# Altium schematic symbol library SchLib.SchLib: 39 symbols
Pins are listed as number, name and electrical type; pins without a type are passive.

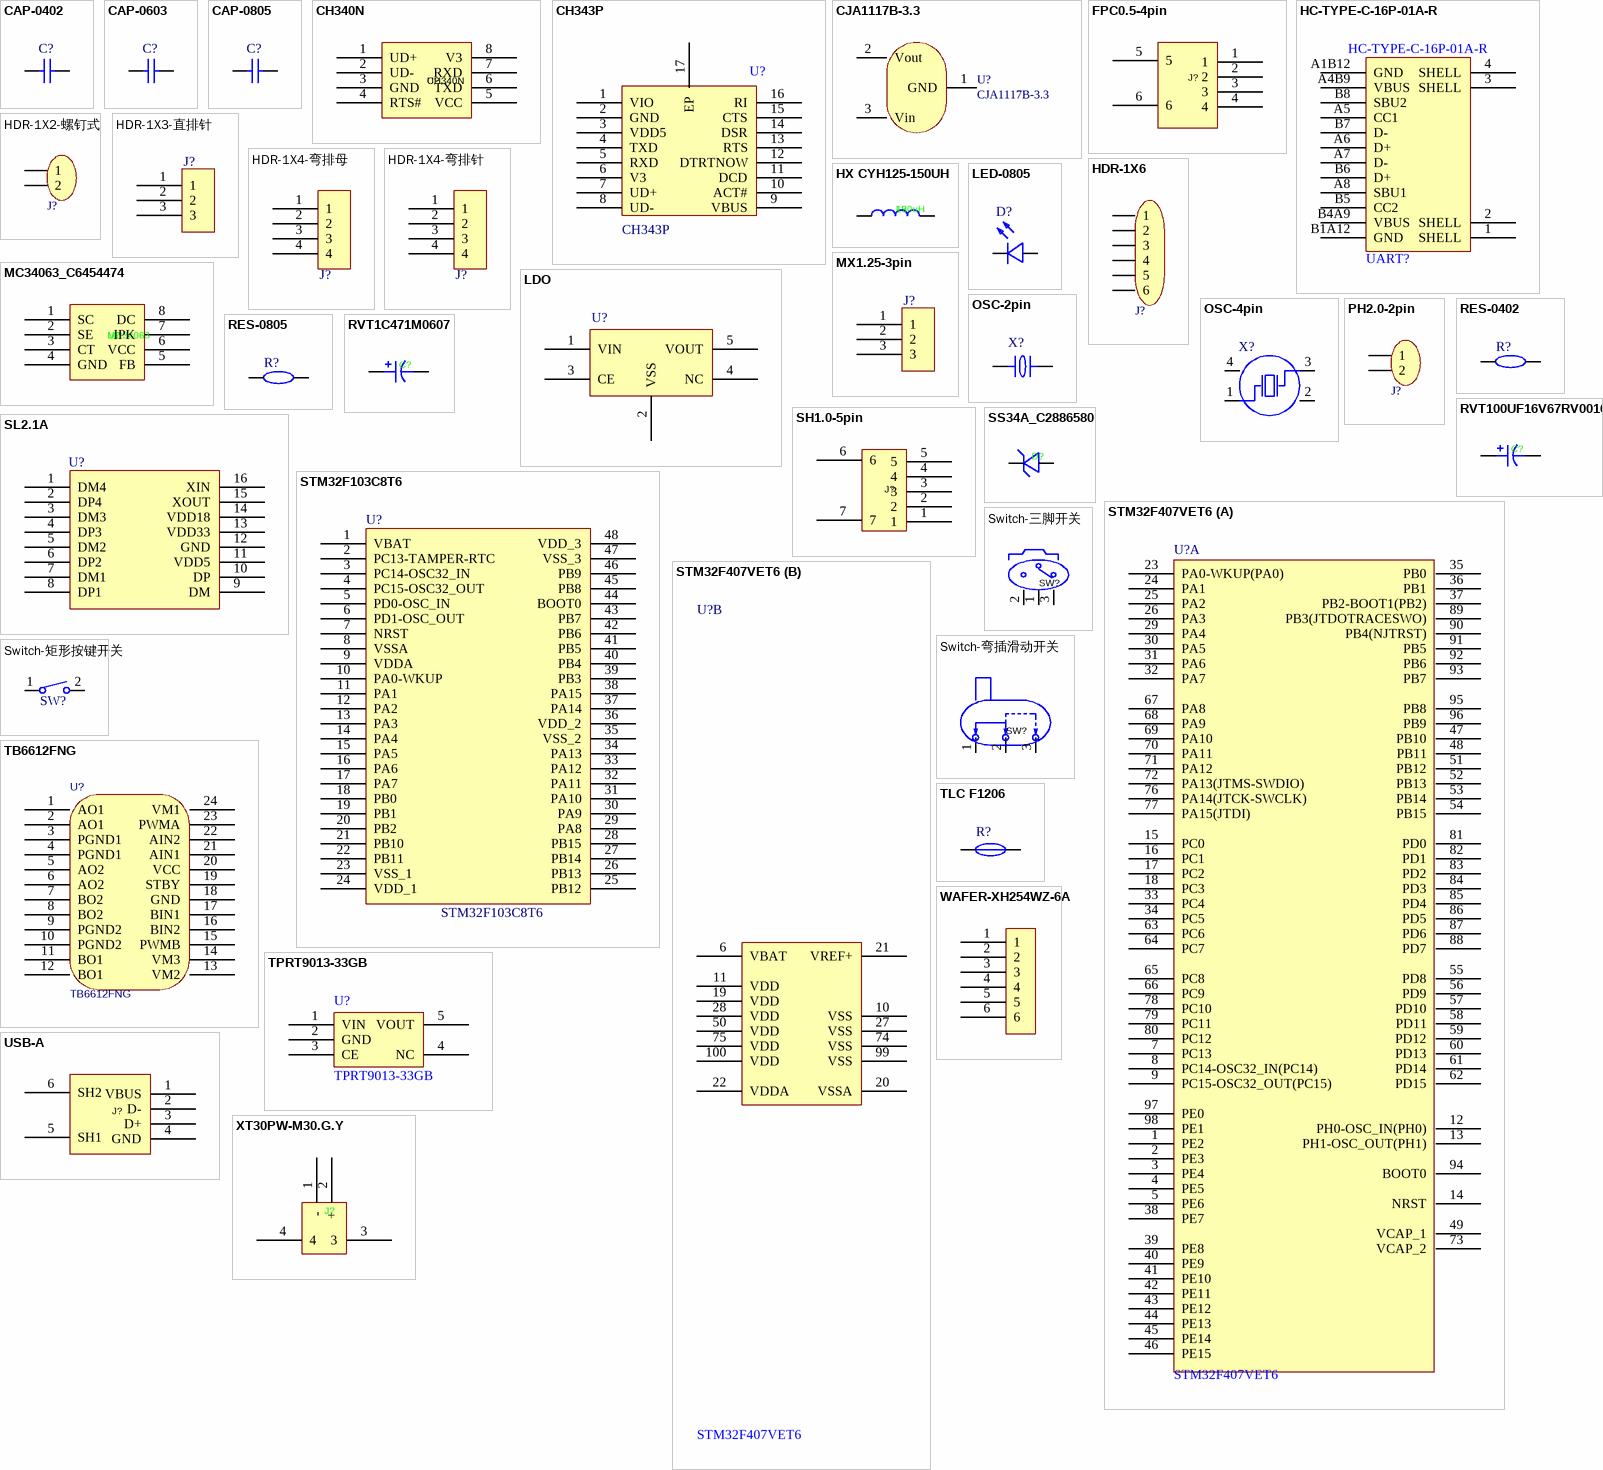
[diagram p0: symbols CAP-0402 to XT30PW-M30.G.Y]

## CAP-0402
designator C?
0402贴片电容; Manufacturer: SAMSUNG(三星); Symbol: CL21B104KBCNNNC; Add into BOM: yes; Tolerance: ±10%; Voltage Rated: 50V; Temperature Coefficient: X7R; Device: CL21B104KBCNNNC; LCSC Part Name: 100nF ±10% 50V; Supplier Part: C1711; Manufacturer Part: CL21B104KBCNNNC; Supplier Footprint: 0805; JLCPCB Part Class: Extended Part; Datasheet: https://atta.szlcsc.com/upload/public/pdf/source/20160103/1457707693305.pdf; Supplier: LCSC; Convert to PCB: yes
3D model C0805_L2.0-W1.3-H1.3
footprint C0402
pins: 1, 2

## CAP-0603
designator C?
0603贴片电容; Manufacturer: SAMSUNG(三星); Symbol: CL21B104KBCNNNC; Add into BOM: yes; Tolerance: ±10%; Voltage Rated: 50V; Temperature Coefficient: X7R; Device: CL21B104KBCNNNC; LCSC Part Name: 100nF ±10% 50V; Supplier Part: C1711; Manufacturer Part: CL21B104KBCNNNC; Supplier Footprint: 0805; JLCPCB Part Class: Extended Part; Datasheet: https://atta.szlcsc.com/upload/public/pdf/source/20160103/1457707693305.pdf; Supplier: LCSC; Convert to PCB: yes
3D model C0805_L2.0-W1.3-H1.3
footprint C0603
pins: 1, 2

## CAP-0805
designator C?
0805贴片电容; Manufacturer: SAMSUNG(三星); Symbol: CL21B104KBCNNNC; Add into BOM: yes; Tolerance: ±10%; Voltage Rated: 50V; Temperature Coefficient: X7R; Device: CL21B104KBCNNNC; LCSC Part Name: 100nF ±10% 50V; Supplier Part: C1711; Manufacturer Part: CL21B104KBCNNNC; Supplier Footprint: 0805; JLCPCB Part Class: Extended Part; Datasheet: https://atta.szlcsc.com/upload/public/pdf/source/20160103/1457707693305.pdf; Supplier: LCSC; Convert to PCB: yes
footprint C0805
3D model C0805_L2.0-W1.3-H1.3
pins: 1, 2

## CH340N
designator U?
USB转串口; Manufacturer: WCH(南京沁恒); Symbol: CH340N_C2977777; Add into BOM: yes; Protocol: USB 2.0; Number of Channels: 1; Supply Voltage: 3.3V；5V; Data Rate: 2Mbps; Device: CH340N; LCSC Part Name: USB转串口芯片CH340; Supplier Part: C2977777; Manufacturer Part: CH340N; Supplier Footprint: SOP-8; JLCPCB Part Class: Extended Part; Datasheet: https://atta.szlcsc.com/upload/public/pdf/source/20240313/115CDE92081B1D6CB446704AD5D0F5F2.pdf; Supplier: LCSC; Convert to PCB: yes; Applications Function: USB转串口; Operating Temperature: -20℃~+70℃
footprint SOP-8_L4.9-W3.9-P1.27-LS6.0-BL
3D model SOP-8_L4.9-W3.9-P1.27-LS6.0-BL-1
pins: 1 UD+, 2 UD-, 3 GND, 4 RTS#, 5 VCC, 6 TXD, 7 RXD, 8 V3

## CH343P
designator U?
USB转串口; Manufacturer: WCH(南京沁恒); Add into BOM: yes; Symbol: CH343P; Device: CH343P; Supplier Part: C2846043; Manufacturer Part: CH343P; Supplier Footprint: QFN-16; JLCPCB Part Class: 扩展库; Datasheet: https://atta.szlcsc.com/upload/public/pdf/source/20211010/C2846043_7FA705E1F14A2906F6A2AFA45FA28209.pdf; Supplier: LCSC; Convert to PCB: yes; Type: -; Protocol: -; Number of Drivers/Receivers: -; Data Rate: -; Supply Voltage: -
footprint TQFN-16_L3.0-W3.0-P0.50-BL-EP1.7
3D model TQFN-16_L3.0-W3.0-P0.50-BL-EP1.7
pins: 1 VIO, 2 GND, 3 VDD5, 4 TXD, 5 RXD, 6 V3, 7 UD+, 8 UD-, 9 VBUS, 10 ACT#, 11 DCD, 12 DTRTNOW, 13 RTS, 14 DSR, 15 CTS, 16 RI, 17 EP

## CJA1117B-3.3
designator U?
3.3V线性稳压器
footprint SOT-89
pins: 1 GND, 2 Vout, 3 Vin

## FPC0.5-4pin
designator J?, comment AFC01-S04FCC-00  (value not drawn)
4pin FPC接口，间距0.5mm; Manufacturer: JS(钜硕电子); Add into BOM: yes; Locking Feature: 翻盖式; Number of Contacts: 4P; Pitch: 0.5mm; FFC, FCB Thickness: 0.3mm; Symbol: AFC01-S04FCC-00; Device: AFC01-S04FCC-00; LCSC Part Name: 间距:0.5mm P数:4P 翻盖式 下接; Supplier Part: C262260; Manufacturer Part: AFC01-S04FCC-00; Supplier Footprint: SMD,P=0.5mm,卧贴; JLCPCB Part Class: Extended Part; Datasheet: https://atta.szlcsc.com/upload/public/pdf/source/20190816/C413942_2A72D1AC756EAE17EEDF756A339D4500.pdf; Supplier: LCSC; Convert to PCB: yes; Contact Type: 下接; Mounting Type: 卧贴; Height Above Board: 2mm
footprint FFC-SMD_4P-P0.50_AFC01-S04FCC-00
3D model FFC-SMD_4P-P0.50_AFC01-S04FCC-00
pins: 1, 2, 3, 4, 5, 6

## HC-TYPE-C-16P-01A-R
designator UART?
Type-C接口; Manufacturer: HCTL(华灿天禄); Add into BOM: yes; Connector Type: Type-C; Gender: 母座; Number of Contacts: 16; Number of Ports: 1; Symbol: HC-TYPE-C-16P-01A-R; Device: HC-TYPE-C-16P-01A-R; LCSC Part Name: Type-C 母座 卧贴; Supplier Part: C2997433; Manufacturer Part: HC-TYPE-C-16P-01A-R; Supplier Footprint: SMD; Datasheet: https://atta.szlcsc.com/upload/public/pdf/source/20220415/23B51DCADC5F28223C40C3605487ACA1.pdf; Supplier: LCSC; Convert to PCB: yes; Mounting Style: 卧贴
footprint USB-C-SMD_G-SWITCH_GT-USB-7010EN
3D model USB-C-SMD_G-SWITCH_GT-USB-7010EN
pins: 1 SHELL, 2 SHELL, 3 SHELL, 4 SHELL, A1B12 GND, A4B9 VBUS, A5 CC1, A6 D+, A7 D-, A8 SBU1, B1A12 GND, B4A9 VBUS, B5 CC2, B6 D+, B7 D-, B8 SBU2

## HDR-1X2-螺钉式
designator J?  (value not drawn)
1X2螺钉式接线端子; BOM名称: 2P接插件; 封装库来自淘宝卖家 ID：黄晶宝石: 其他店铺购入均为盗版假冒封装库; 联系卖家，免费查找封装: 唯一出售店铺网址https://shop463601444.taobao.com
footprint CONN-TH_2P-P5.00-L10.0-W10.3
pins: 1, 2

## HDR-1X3-直排针
designator J?, comment HDR-1X3-Stand  (value not drawn)
1X3直排针; Symbol: PZ254V-11-03P_C2937625; Device: HDR-M_2.54_1x3P; Convert to PCB: yes; Add into BOM: yes; Supplier Part: C2937625; Supplier Footprint: 插件
footprint HDR-TH_3P-P2.54-V-M
3D model HDR-TH_3P-P2.54-M-LI-1X3P
pins: 1, 2, 3

## HDR-1X4-弯排母
designator J?, comment HDR-1X4  (value not drawn)
1X4弯排母; Symbol: PZ254V-11-04P; Device: HDR-M_2.54_1x4P; Convert to PCB: yes; Add into BOM: yes; Supplier Part: C2935929; Supplier Footprint: 插件
footprint HDR-TH_4P-P2.54-H-F-W10.0-N
3D model HDR-TH_4P-P2.54-V-M
pins: 1, 2, 3, 4

## HDR-1X4-弯排针
designator J?, comment HDR-1X4  (value not drawn)
1X4弯排针; Symbol: PZ254V-11-04P; Device: HDR-M_2.54_1x4P; Convert to PCB: yes; Add into BOM: yes; Supplier Part: C2935929; Supplier Footprint: 插件
footprint HDR-TH_4P-P2.54-H-M-W10.4
pins: 1, 2, 3, 4

## HDR-1X6
designator J?  (value not drawn)
1X6排针; BOM名称: 6P接插件; 封装库来自淘宝卖家 ID：黄晶宝石: 其他店铺购入均为盗版假冒封装库; 联系卖家，免费查找封装: 唯一出售店铺网址https://shop463601444.taobao.com
footprint HDR2.54-LI-6P
pins: 1, 2, 3, 4, 5, 6

## HX CYH125-150UH
designator L?, comment 150uH
150uH贴片电感; Manufacturer: hanxia(韩下); Symbol: HX CYH125-150UH; Add into BOM: yes; Tolerance: ±20%; Rated Current: 2.1A; DC Resistance (DCR): 140mΩ; Device: HX CYH125-150UH; LCSC Part Name: 150uH ±20%; Supplier Part: C7587714; Manufacturer Part: HX CYH125-150UH; Supplier Footprint: SMD,12.5x12.5mm; JLCPCB Part Class: Extended Part; Datasheet: https://atta.szlcsc.com/upload/public/pdf/source/20230829/62AFB8ACEA0AE28F73050A77CC19A792.pdf; Supplier: LCSC; Convert to PCB: yes; Value: 150uH
footprint IND-SMD_L12.5-W12.5_GSDRK127P
3D model IND-SMD_L12.5-W12.5-H8.0_GSDRK127P
pins: 1, 2

## LDO
designator U?  (value not drawn)
低压差线性稳压器; Manufacturer: MICRONE(南京微盟); Symbol: ME6211C33M5G-N; Add into BOM: yes; Output Type: 固定; Output Polarity: 正; Number of Outputs: 1; Maximum Input Voltage: 6V; Output Voltage: 3.3V; Dropout Voltage: 260mV@(200mA); Output Current: 500mA; Power Supply Rejection Ratio (PSRR): 70dB; Device: ME6211C33M5G-N; LCSC Part Name: ME6211C33M5G-N; Supplier Part: C82942; Manufacturer Part: ME6211C33M5G-N; Supplier Footprint: SOT-23-5; JLCPCB Part Class: 扩展库; Datasheet: https://atta.szlcsc.com/upload/public/pdf/source/20170918/C82942_1505727073070976520.pdf; Supplier: LCSC; Convert to PCB: yes
footprint SOT-23-5_L3.0-W1.7-P0.95-LS2.8-BL
3D model SOT-23-5_L2.9-W1.6-H1.1-LS2.8-P0.95
pins: 1 VIN, 2 VSS, 3 CE, 4 NC, 5 VOUT

## LED-0805
designator D?
LED; Manufacturer: MEIHUA(美华科技); Symbol: MHT170UBCT; Add into BOM: yes; Lens Color: 无色透明; Dominant Wavelength: 460nm~475nm; Peak Wavelength: 468nm; Forward Current: 20mA; Forward Voltage (VF): 3.3V; Luminous Intensity: 225mcd; Power Dissipation: 95mW; Viewing Angle: 140°; Device: MHT170UBCT; LCSC Part Name: LED贴片0805超高亮蓝光; Supplier Part: C389525; Manufacturer Part: MHT170UBCT; Supplier Footprint: 0805; JLCPCB Part Class: Extended Part; Datasheet: https://atta.szlcsc.com/upload/public/pdf/source/20190515/C389525_9DDE5770D44EFFE682D3E1E38A61D6F4.pdf; Supplier: LCSC; Convert to PCB: yes; Diode Configuration: -; Color Temperature: -; Luminous Flux (@25℃): -; Mounting Sytle: -; Operating Temperature: -40~+85
footprint LED0805-RD
3D model LED0805-RD
pins: 1 -, 2 +

## MC34063_C6454474
designator U?, comment MC34063
DC-DC电源芯片; Manufacturer: MSKSEMI(美森科); Symbol: MC34063_C6454474; Add into BOM: yes; Output Type: 可调; Input Voltage: 3V~40V; Number of Outputs: 1; Switch tube (built-in/external): 内置; Device: MC34063_C6454474; LCSC Part Name: 单片DC-DC变换集成电路; Supplier Part: C6454474; Manufacturer Part: MC34063; Supplier Footprint: SOP-8; JLCPCB Part Class: Extended Part; Datasheet: https://atta.szlcsc.com/upload/public/pdf/source/20230524/F84E18146E118B80C4325CCA333FE83E.pdf; Supplier: LCSC; Convert to PCB: yes; Function: -; Output Voltage: -; Output Current: -; Switching Frequency: -; Operating Temperature: 0℃~+70℃; Synchronous Rectification: -; Topology: -; Quiescent Current (Iq): -
footprint SOP-8_L4.9-W3.9-P1.27-LS6.0-BL
3D model SOP-8_L4.9-W3.9-P1.27-LS6.0-BL-1
pins: 1 SC, 2 SE, 3 CT, 4 GND, 5 FB, 6 VCC, 7 IPK, 8 DC

## MX1.25-3pin
designator J?  (value not drawn)
MX1.25 3pin 公头端子; Symbol: PZ254V-11-03P_C2937625; Device: HDR-M_2.54_1x3P; Convert to PCB: yes; Add into BOM: yes; Supplier Part: C2937625; Supplier Footprint: 插件
3D model HDR-TH_3P-P2.54-M-LI-1X3P
footprint CONN-TH_3P-P1.25_BX-MX1.25-3PWZ
pins: 1, 2, 3

## OSC-2pin
designator X?
两脚晶振; Manufacturer: YXC(扬兴晶振); Symbol: X321532768KGD2SI; Add into BOM: yes; Crystal Type: 贴片晶振; Normal temperature Frequency Tolerance: ±20ppm; External load capacitor: 12.5pF; Device: X321532768KGD2SI; LCSC Part Name: 32.768kHz ±20ppm 12.5pF; Supplier Part: C620155; Manufacturer Part: X321532768KGD2SI; Supplier Footprint: SMD3215-2P; JLCPCB Part Class: 扩展库; Datasheet: https://atta.szlcsc.com/upload/public/pdf/source/20240329/3A7650FD985DD0DE85694D3785AB4916.pdf; Supplier: LCSC; Convert to PCB: yes; Frequency Stability(Full temperature range): -; Operating Temperature: -40℃~+85℃
footprint OSC-SMD_L3.2-W1.5
3D model OSC-SMD_L3.2-W1.5-H0.8
pins: 1, 2

## OSC-4pin
designator X?
四脚晶振; Manufacturer: JGHC(晶光华); Symbol: S3212000201080; Add into BOM: yes; Crystal Type: 贴片无源晶振; Frequency Tolerance: ±10ppm; Load Capacitance: 20pF; Equivalent Series Resistance (ESR): 80Ω; Device: S3212000201080; LCSC Part Name: 12MHz ±10ppm 20pF; Supplier Part: C426972; Manufacturer Part: S3212000201080; Supplier Footprint: SMD3225-4P; JLCPCB Part Class: Extended Part; Datasheet: https://atta.szlcsc.com/upload/public/pdf/source/20191012/C426972_E2C41F8C78BF72E52773F7737EA32F83.pdf; Supplier: LCSC; Convert to PCB: yes; Frequency Stability: -; Operating Temperature: -40~+85
footprint CRYSTAL-SMD_4P-L3.2-W2.5-BL
3D model OSC-SMD_4P-L3.2-W2.5-H1.0
pins: 1 OSC1, 2 GND, 3 OSC2, 4 GND

## PH2.0-2pin
designator J?  (value not drawn)
PH2.0-2pin公头端子; BOM名称: 2P接插件; 封装库来自淘宝卖家 ID：黄晶宝石: 其他店铺购入均为盗版假冒封装库; 联系卖家，免费查找封装: 唯一出售店铺网址https://shop463601444.taobao.com
footprint CONN-TH_2P-P2.00_GP01-2001WR-2P
pins: 1, 2

## RES-0402
designator R?
0402贴片电阻; Manufacturer: FH(风华); Symbol: RS-05K102JT; Add into BOM: yes; Tolerance: ±5%; Power(Watts): 125mW; Temperature Coefficient: ±100ppm/; Overload Voltage (Max): 150V; Device: RS-05K102JT; LCSC Part Name: 1kΩ ±5%; Supplier Part: C115302; Manufacturer Part: RS-05K102JT; Supplier Footprint: 0805; JLCPCB Part Class: Extended Part; Datasheet: https://atta.szlcsc.com/upload/public/pdf/source/20170704/1499151304704.pdf; Supplier: LCSC; Convert to PCB: yes; Operating Temperature Range: -55~+155
footprint R0402
3D model R0805_L2.0-W1.3-H0.6
pins: 1, 2

## RES-0805
designator R?
0805贴片电阻; Manufacturer: FH(风华); Symbol: RS-05K102JT; Add into BOM: yes; Tolerance: ±5%; Power(Watts): 125mW; Temperature Coefficient: ±100ppm/; Overload Voltage (Max): 150V; Device: RS-05K102JT; LCSC Part Name: 1kΩ ±5%; Supplier Part: C115302; Manufacturer Part: RS-05K102JT; Supplier Footprint: 0805; JLCPCB Part Class: Extended Part; Datasheet: https://atta.szlcsc.com/upload/public/pdf/source/20170704/1499151304704.pdf; Supplier: LCSC; Convert to PCB: yes; Operating Temperature Range: -55~+155
footprint R0805
3D model R0805_L2.0-W1.3-H0.6
pins: 1, 2

## RVT1C471M0607
designator C?, comment 470uF  (value not drawn)
铝电解电容 470uF; Manufacturer: ROQANG(容强); Symbol: RVT1C471M0607; Add into BOM: yes; Tolerance: ±20%; Rated Voltage: 16V; Ripple Current: 185mA@120Hz; φD: 6.3mm; L: 7.7mm; Lifetime @ Temp: 2000hrs@105℃; Device: RVT1C471M0607; LCSC Part Name: 470uF ±20% 16V; Supplier Part: C2977552; Manufacturer Part: RVT1C471M0607; Supplier Footprint: SMD,D6.3xL7.7mm; JLCPCB Part Class: Extended Part; Datasheet: https://atta.szlcsc.com/upload/public/pdf/source/20220223/DD822675CC1DF2F0C06D5C2255C9C2D9.pdf; Supplier: LCSC; Convert to PCB: yes; Value: 470uF; Operating Temperature: -40℃~+105℃
footprint CAP-SMD_BD6.3-L6.6-W6.6-LS7.6-RD
3D model CAP-SMD_BD6.3-L6.6-W6.6-LS7.6-RD
pins: 1, 2

## RVT100UF16V67RV0016
designator C?, comment 100uF  (value not drawn)
铝电解电容 100uF; Manufacturer: KNSCHA(科尼盛); Symbol: RVT100UF16V67RV0016; Add into BOM: yes; Tolerance: ±20%; Rated Voltage: 16V; Ripple Current: 93mA@120Hz; φD: 6.3mm; L: 5.4mm; Lifetime @ Temp: 2000hrs@105℃; Device: RVT100UF16V67RV0016; LCSC Part Name: 100uF ±20% 16V; Supplier Part: C2887276; Manufacturer Part: RVT100UF16V67RV0016; Supplier Footprint: SMD,D6.3xL5.4mm; JLCPCB Part Class: Extended Part; Datasheet: https://atta.szlcsc.com/upload/public/pdf/source/20240521/3810EB5B434F72326C196D6A9426C70A.pdf; Supplier: LCSC; Convert to PCB: yes; Value: 100uF; Equivalent Series Resistance(ESR): -; Operating Temperature: -55℃~+105℃
footprint CAP-SMD_BD6.3-L6.6-W6.6-LS7.2-FD
3D model CAP-SMD_BD6.3-L6.6-W6.6-LS7.2-FD
pins: 1, 2

## SH1.0-5pin
designator J?, comment WAFER-SH1.0-5PWB  (value not drawn)
SH1.0 5pin 公头端子; Manufacturer: XUNPU(讯普); Add into BOM: yes; Pins Structure: 1x5P; Pitch: 1mm; Number of PINs Per Row: 5; Current Rating (Max): 1A; Symbol: WAFER-SH1.0-5PWB; Device: WAFER-SH1.0-5PWB; LCSC Part Name: 1x5P 间距:1mm 卧贴; Supplier Part: C3029344; Manufacturer Part: WAFER-SH1.0-5PWB; Supplier Footprint: SMD,P=1mm,卧贴; JLCPCB Part Class: Extended Part; Datasheet: https://atta.szlcsc.com/upload/public/pdf/source/20220527/1879B8210BD3B2006BCEAC1A40D397B6.pdf; Supplier: LCSC; Convert to PCB: yes; Mounting Style: 卧贴; Number of Pins: 5P; Number of Rows: 1; Operating Temperature Range: -25℃~+85℃
footprint CONN-SMD_5P-P1.00_XUNPU_WAFER-SH1.0-5PWB
3D model CONN-SMD_5P-P1.00_XUNPU_WAFER-SH1.0-5PWB
pins: 1, 2, 3, 4, 5, 6, 7

## SL2.1A
designator U?
USB 2.0接口4口HUB芯片; Manufacturer: CoreChips(和芯润德); Symbol: SL2.1A; Add into BOM: yes; Device: SL2.1A; LCSC Part Name: SL2.1A; Supplier Part: C192893; Manufacturer Part: SL2.1A; Supplier Footprint: SOP-16_150mil; JLCPCB Part Class: Extended Part; Datasheet: https://atta.szlcsc.com/upload/public/pdf/source/20180522/C192893_624110D24898D57AAC785E3DF98EA862.pdf; Supplier: LCSC; Convert to PCB: yes; Type: -; Protocol: -; Number of Drivers/Receivers: -; Data Rate: -; Supply Voltage: -
footprint SOP-16_L10.0-W3.9-P1.27-LS6.0-BL
3D model SOP-16_L9.9-W3.9-H1.5-LS6.0-P1.27
pins: 1 DM4, 2 DP4, 3 DM3, 4 DP3, 5 DM2, 6 DP2, 7 DM1, 8 DP1, 9 DM, 10 DP, 11 VDD5, 12 GND, 13 VDD33, 14 VDD18, 15 XOUT, 16 XIN

## SS34A_C2886580
designator D?, comment SS34A  (value not drawn)
肖特基二极管; Manufacturer: Hottech(合科泰); Symbol: SS34A_C2886580; Add into BOM: yes; Diode Configuration: 独立式; Forward Voltage (Vf@If): 500mV@3A; Reverse Voltage (Vr): 40V; Rectified Current: 3A; Reverse Leakage Current (Ir): 500uA@40V; Device: SS34A_C2886580; LCSC Part Name: 电压:40V 电流:3A; Supplier Part: C2886580; Manufacturer Part: SS34A; Supplier Footprint: SMA(DO-214AC); JLCPCB Part Class: Extended Part; Datasheet: https://atta.szlcsc.com/upload/public/pdf/source/20220428/CC15BDAC1896772FBF35067304521A73.pdf; Supplier: LCSC; Convert to PCB: yes
footprint SMA_L4.4-W2.6-LS5.1-RD
3D model SMA_L4.4-W2.6-LS5.1-RD
pins: 1, 2

## STM32F103C8T6
designator U?
STM32F103C8T6 MCU; Manufacturer: ST(意法半导体); Add into BOM: yes; CPU Core: CM3; Program Storage Size: 64KB; RAM Size: 20KB; GPIO Ports Number: 37; Operating Voltage Range: 2V~3.6V; CPU Maximum Speed: 72MHz; Program Memory Type: FLASH; ADC (Bit): 12bit; Universal Serial Bus: 有; Peripheral/Function: 看门狗；DMA；看门狗；片载温度传感器; Symbol: STM32F103C8T6; LCSC Part Name: STM32F103C8T6 MSL=3; Supplier Part: C8734; Manufacturer Part: STM32F103C8T6; Supplier Footprint: LQFP-48(7x7); JLCPCB Part Class: 扩展库; Datasheet: https://atta.szlcsc.com/upload/public/pdf/source/20220812/8363ACEC51AD55ECEB84799464F7CB85.pdf; Supplier: LCSC; Convert to PCB: yes; Operating Temperature Range: -40℃~+85℃; DAC (Bit): -; PWM (Bit): -; Internal Comparator: -; communication protocol: -; Watchdog: 有; Real-Time Clock: -; Infrared Data Association: 有; Low-Voltage Detect: 有; CCP Capture/Compare: -; Secure Digital Input and Output: -; Direct Memory Access: 有; Internal Oscillator: 有; Device: STM32F103C8T6
footprint LQFP-48_L7.0-W7.0-P0.50-LS9.0-BL
3D model LQFP-48_L7.0-W7.0-H1.4-LS9.0-P0.50
pins: 1 VBAT, 2 PC13-TAMPER-RTC, 3 PC14-OSC32_IN, 4 PC15-OSC32_OUT, 5 PD0-OSC_IN, 6 PD1-OSC_OUT, 7 NRST, 8 VSSA, 9 VDDA, 10 PA0-WKUP, 11 PA1, 12 PA2, 13 PA3, 14 PA4, 15 PA5, 16 PA6, 17 PA7, 18 PB0, 19 PB1, 20 PB2, 21 PB10, 22 PB11, 23 VSS_1, 24 VDD_1, 25 PB12, 26 PB13, 27 PB14, 28 PB15, 29 PA8, 30 PA9, 31 PA10, 32 PA11, 33 PA12, 34 PA13, 35 VSS_2, 36 VDD_2, 37 PA14, 38 PA15, 39 PB3, 40 PB4, 41 PB5, 42 PB6, 43 PB7, 44 BOOT0, 45 PB8, 46 PB9, 47 VSS_3, 48 VDD_3

## STM32F407VET6
designator U?
STM32F407VET6 MCU; Manufacturer: ST(意法半导体); Add into BOM: yes; CPU Core: CM4; Program Storage Size: 512KB; RAM Size: 192KB; GPIO Ports Number: 82; Operating Voltage Range: 1.8V~3.6V; CPU Maximum Speed: 168MHz; Program Memory Type: FLASH; ADC (Bit): 12bit; Universal Serial Bus: 有; Peripheral/Function: DMA；LCD/LED驱动；PWM; Symbol: STM32F407VET6; Device: STM32F407VET6; LCSC Part Name: STM32F407VET6; Supplier Part: C28730; Manufacturer Part: STM32F407VET6; Supplier Footprint: LQFP-100(14x14); JLCPCB Part Class: 扩展库; Datasheet: https://atta.szlcsc.com/upload/public/pdf/source/20140801/1457707197138.pdf; Supplier: LCSC; Convert to PCB: yes; Operating Temperature Range: -40℃~+85℃; DAC (Bit): 12bit; PWM (Bit): -; Internal Comparator: -; communication protocol: -; Watchdog: 有; Real-Time Clock: -; Infrared Data Association: 有; Low-Voltage Detect: 有; CCP Capture/Compare: -; LCD Module: 有; Secure Digital Input and Output: -; Direct Memory Access: 有; Internal Oscillator: 有
footprint LQFP-100_L14.0-W14.0-P0.50-LS16.0-BL
3D model LQFP-100_L14.0-W14.0-H1.4-LS16.0-P0.50
part A pins: 1 PE2, 2 PE3, 3 PE4, 4 PE5, 5 PE6, 7 PC13, 8 PC14-OSC32_IN(PC14), 9 PC15-OSC32_OUT(PC15), 12 PH0-OSC_IN(PH0), 13 PH1-OSC_OUT(PH1), 14 NRST, 15 PC0, 16 PC1, 17 PC2, 18 PC3, 23 PA0-WKUP(PA0), 24 PA1, 25 PA2, 26 PA3, 29 PA4, 30 PA5, 31 PA6, 32 PA7, 33 PC4, 34 PC5, 35 PB0, 36 PB1, 37 PB2-BOOT1(PB2), 38 PE7, 39 PE8, 40 PE9, 41 PE10, 42 PE11, 43 PE12, 44 PE13, 45 PE14, 46 PE15, 47 PB10, 48 PB11, 49 VCAP_1, 51 PB12, 52 PB13, 53 PB14, 54 PB15, 55 PD8, 56 PD9, 57 PD10, 58 PD11, 59 PD12, 60 PD13, 61 PD14, 62 PD15, 63 PC6, 64 PC7, 65 PC8, 66 PC9, 67 PA8, 68 PA9, 69 PA10, 70 PA11, 71 PA12, 72 PA13(JTMS-SWDIO), 73 VCAP_2, 76 PA14(JTCK-SWCLK), 77 PA15(JTDI), 78 PC10, 79 PC11, 80 PC12, 81 PD0, 82 PD1, 83 PD2, 84 PD3, 85 PD4, 86 PD5, 87 PD6, 88 PD7, 89 PB3(JTDOTRACESWO), 90 PB4(NJTRST), 91 PB5, 92 PB6, 93 PB7, 94 BOOT0, 95 PB8, 96 PB9, 97 PE0, 98 PE1
part B pins: 6 VBAT, 10 VSS, 11 VDD, 19 VDD, 20 VSSA, 21 VREF+, 22 VDDA, 27 VSS, 28 VDD, 50 VDD, 74 VSS, 75 VDD, 99 VSS, 100 VDD

## Switch-三脚开关
designator SW?, comment BSI-10H  (value not drawn)
三脚开关; Manufacturer: SM Switch; Symbol: BSI-10H_C5775777; Add into BOM: yes; Current Rating (DC): 50mA; Voltage Rating (DC): 12V; Device: BSI-10H_C5775777; LCSC Part Name: BSI-10H; Supplier Part: C5775777; Manufacturer Part: BSI-10H; Supplier Footprint: 插件; JLCPCB Part Class: Extended Part; Datasheet: https://atta.szlcsc.com/upload/public/pdf/source/20230506/E6C7D73CE6DA310EE0253B6F4CD83EFB.pdf; Supplier: LCSC; Convert to PCB: yes; Operating Temperature: -40℃~+85℃
footprint SW-TH_BSI-10H
3D model SW-TH_BSI-10H-L10.0-W7.1-H2.5-P2.54
pins: 1, 2, 3

## Switch-弯插滑动开关
designator SW?  (value not drawn)
弯插滑动开关; Manufacturer: SHOU HAN(首韩); Symbol: SS12D10G5-WJ; Add into BOM: yes; Circuit: 单刀双掷; Switch Length: 12.7mm; Switch Width: 6.7mm; Current Rating (DC): 2A; Voltage Rating (DC): 125V; Mechanical Life: 3千次; Device: SS12D10G5-WJ; LCSC Part Name: 两档卧式插件 3脚拨动开关弯插 柄长5.0mm; Supplier Part: C7431058; Manufacturer Part: SS12D10G5-WJ; Supplier Footprint: 插件; JLCPCB Part Class: Extended Part; Datasheet: https://atta.szlcsc.com/upload/public/pdf/source/20230621/24203FB22DE8BDD2A5BD75F3B5E716C8.pdf; Supplier: LCSC; Convert to PCB: yes; Mounting Style: 直插; Operating Temperature: -25℃~+70℃
footprint SW-TH_3P-SS12D06-1
pins: 1, 2, 3

## Switch-矩形按键开关
designator SW?, comment Switch-矩形  (value not drawn)
矩形按键开关; Manufacturer: XKB Connectivity(中国星坤); Symbol: TS-1101-B-W; Device: TS-1101-B-W_C500065; Add into BOM: yes; Contact Current: 50mA; Voltage Rating (DC): 12V; Circuit: 单刀单掷; Actuator Style: 矩形按钮; Actuator/Cap Color: 白色; With Lamp: 无; Operating Force: 160gf; Mechanical Life: 5万次; Switch Length: 6mm; Switch Width: 3.6mm; Switch Height: 2.5mm; Strike Gundam: 否; LCSC Part Name: 6*3.6*2.5mm 立贴 轻触开关; Supplier Part: C500065; Manufacturer Part: TS-1101-B-W; Supplier Footprint: SMD; JLCPCB Part Class: 扩展库; Datasheet: https://atta.szlcsc.com/upload/public/pdf/source/20211011/D0E0CAF534F7B19DDE4CE68748A25BD3.pdf; Supplier: LCSC; Convert to PCB: yes; Insulation Resistance: -; Mounting Style: 立贴; Operating Temperature: -30℃~+85℃
footprint KEY-SMD_2P-L6.0-W3.6-P7.4-LS8.0-L
3D model KEY-SMD_2P-L6.0-W3.6-P7.4-LS8.0-L
pins: 1, 2

## TB6612FNG
designator U?
TB6612FNG电机驱动; 联系卖家，免费查找封装: 唯一出售店铺网址https://shop463601444.taobao.com; BOM名称: TB6612FNG
footprint SSOP-24_L8.4-W5.8-P0.65-LS7.8-BL
pins: 1 AO1, 2 AO1, 3 PGND1, 4 PGND1, 5 AO2, 6 AO2, 7 BO2, 8 BO2, 9 PGND2, 10 PGND2, 11 BO1, 12 BO1, 13 VM2, 14 VM3, 15 PWMB, 16 BIN2, 17 BIN1, 18 GND, 19 STBY, 20 VCC, 21 AIN1, 22 AIN2, 23 PWMA, 24 VM1

## TLC F1206
designator R?
保险丝; Manufacturer: TLC(竞沃); Symbol: TLC-NSMD100; Add into BOM: yes; Operating Voltage (Max): 6V; Current Rating (Max): 100A; Hold Current: 1A; Trip Current: 2A; Power Dissipation: 600mW; Maximum Time to Trip: 100ms; Device: TLC-NSMD100; LCSC Part Name: 6V 1A 自恢复; Supplier Part: C261954; Manufacturer Part: TLC-NSMD100; Supplier Footprint: 1206; JLCPCB Part Class: Extended Part; Datasheet: https://atta.szlcsc.com/upload/public/pdf/source/20180802/C261954_CE31CE21EEB143DB51778C363DF0F083.pdf; Supplier: LCSC; Convert to PCB: yes; Resistance - Initial (Ri) (Min): -; Resistance - Post Trip (R1) (Max): -; Operating Temperature: -40~+85
footprint F1206
3D model F1206_L3.2-W1.7-H0.6
pins: 1, 2

## TPRT9013-33GB
designator U?
3.3V线性稳压器; Manufacturer: TECH PUBLIC(台舟); Add into BOM: yes; Symbol: TPRT9013-33GB; Device: TPRT9013-33GB; LCSC Part Name: TPRT9013-33GB; Supplier Part: C587158; Manufacturer Part: TPRT9013-33GB; Supplier Footprint: SOT-23-5; JLCPCB Part Class: 扩展库; Datasheet: https://atta.szlcsc.com/upload/public/pdf/source/20210810/692D4D0C3CF190F9330EFD28C3E572CB.pdf; Supplier: LCSC; Convert to PCB: yes; Output Type: -
footprint SOT-23-5_L3.0-W1.7-P0.95-LS2.8-BL
3D model SOT-23-5_L2.9-W1.6-H1.1-LS2.8-P0.95
pins: 1 VIN, 2 GND, 3 CE, 4 NC, 5 VOUT

## USB-A
designator J?  (value not drawn)
直插式USB-A公头; Manufacturer: 韩国韩荣; Symbol: U-G-04DD-W-4; Add into BOM: yes; Connector Type: Type-A; Gender: 公; Number of Ports: 1; Number of Contacts: 4P; Device: U-G-04DD-W-4; LCSC Part Name: Type-A 公 直插; Supplier Part: C879731; Manufacturer Part: U-G-04DD-W-4; Supplier Footprint: 插件; JLCPCB Part Class: Extended Part; Datasheet: https://atta.szlcsc.com/upload/public/pdf/source/20210810/0A35F1E9B38E7EA5C3EF6C12E1E2A06B.pdf; Supplier: LCSC; Convert to PCB: yes; Standard: USB 2.0; Mounting Style: 直插; Current Rating - Power (Max): -; Operating Temperature Range: -55℃~+85℃
footprint USB-TH_U-G-04DD-W-4
3D model USB-TH_U-G-04DD-W-4
pins: 1 VBUS, 2 D-, 3 D+, 4 GND, 5 SH1, 6 SH2

## WAFER-XH254WZ-6A
designator J?  (value not drawn)
XH2.54 6P弯插公头; Manufacturer: HANBO(汉博); Add into BOM: yes; Pins Structure: 1x6P; Pitch: 2.54mm; Reference Series: XH; Number of PINs Per Row: 6; Current Rating (Max): 3A; Symbol: WAFER-XH254WZ-6A; Device: WAFER-XH254WZ-6A; LCSC Part Name: WAFER-XH254WZ-6A; Supplier Part: C7432695; Manufacturer Part: WAFER-XH254WZ-6A; Supplier Footprint: 插件,P=2.5mm; JLCPCB Part Class: Extended Part; Datasheet: https://atta.szlcsc.com/upload/public/pdf/source/20230721/127D646758C1D4B76FEF9901992220E1.pdf; Supplier: LCSC; Convert to PCB: yes; Mounting Style: 弯插; Number of Pins: 6P; Number of Rows: 1; Operating Temperature Range: -25℃~+85℃
footprint CONN-TH_6P-P2.50_WAFER-XH254WZ-6A
3D model CONN-TH_6P-P2.50_WAFER-XH254WZ-6A
pins: 1, 2, 3, 4, 5, 6

## XT30PW-M30.G.Y
designator J?  (value not drawn)
XT30公头; Manufacturer: AMASS(艾迈斯); Add into BOM: yes; RatedVoltage: DC 500V; InterfaceType: 公头; RatedCurrent: 15A; RecommendedWireGauge: 16/18/20AWG; contact resistance: 1.2mΩ; specifications: 2pin; Symbol: XT30PW-M; Device: XT30PW-M30.G.Y; LCSC Part Name: AMASS(艾迈斯)航模插头 卧式弯脚 XT30PW-M公头; Supplier Part: C431092; Manufacturer Part: XT30PW-M30.G.Y; Supplier Footprint: -; JLCPCB Part Class: Extended Part; Datasheet: https://atta.szlcsc.com/upload/public/pdf/source/20220222/6A9F22F7850E25B33E1BE430ADF8560B.pdf; Supplier: LCSC; Convert to PCB: yes; Power: -; Output: -; Input: -; Size: -; Interface: -; Type: 航模插头; Colour: -; MaximumCurrent: -; Type1: -; NumberOfUSBHoles: -; MetalMaterial: -; InsulationMaterial: -; FlameRetardantGrade: -; Belt length: -
footprint CONN-TH_XT30PW-M
3D model CONN-TH_XT30PW-M
pins: 1 -, 2 +, 3, 4